# EAGLE library part TEMPLATE_ARGON/BORON/XENON (library voltera_community_lib)
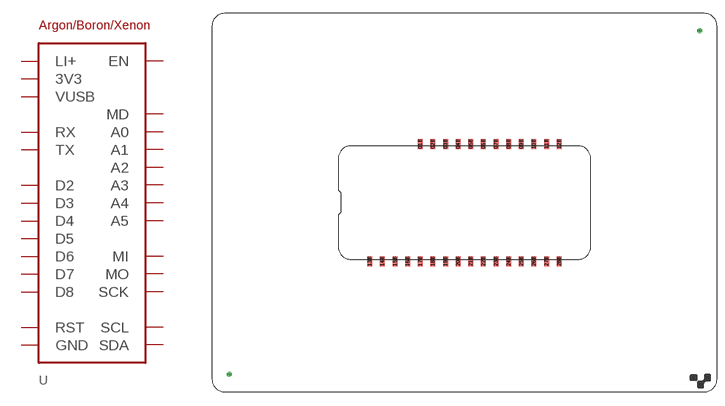
[diagram p7: symbol with the pads of FEATHER; footprint FEATHER]

Designator prefix -

## TEMPLATE_ARGON/BORON/XENON  [FEATHER]
01B  LI+
01T  LI+
02B  EN
02T  EN
03B  VUSB
03T  VUSB
04B  D8
04T  D8
05B  D7
05T  D7
06B  D6
06T  D6
07B  D5
07T  D5
08B  D4
08T  D4
09B  D3
09T  D3
10B  D2
10T  D2
11B  SCL
11T  SCL
12B  SDA
12T  SDA
13B  RST
13T  RST
14B  3V3
14T  3V3
15B  MD
15T  MD
16B  GND
16T  GND
17B  A0
17T  A0
18B  A1
18T  A1
19B  A2
19T  A2
20B  A3
20T  A3
21B  A4
21T  A4
22B  A5
22T  A5
23B  SCK
23T  SCK
24B  MO
24T  MO
25B  MI
25T  MI
26B  RX
26T  RX
27B  TX
27T  TX

## Footprint FEATHER (pad centres in mm)
smd 1.016 x 2.032 bottom: 01B 41.91,49.93; 02B 44.45,49.93; 03B 46.99,49.93; 04B 49.53,49.93; 05B 52.07,49.93; 06B 54.61,49.93; 07B 57.15,49.93; 08B 59.69,49.93; 09B 62.23,49.93; 10B 64.77,49.93; 11B 67.31,49.93; 12B 69.85,49.93; 13B 31.75,26.289; 14B 34.29,26.289; 15B 36.83,26.289; 16B 39.37,26.289; 17B 41.91,26.289; 18B 44.45,26.289; 19B 46.99,26.289; 20B 49.53,26.289; 21B 52.07,26.289; 22B 54.61,26.289; 23B 57.15,26.289; 24B 59.69,26.289; 25B 62.23,26.289; 26B 64.77,26.289; 27B 67.31,26.289; 28B 69.85,26.289
smd 1.016 x 2.032: 01T 41.91,49.93; 02T 44.45,49.93; 03T 46.99,49.93; 04T 49.53,49.93; 05T 52.07,49.93; 06T 54.61,49.93; 07T 57.15,49.93; 08T 59.69,49.93; 09T 62.23,49.93; 10T 64.77,49.93; 11T 67.31,49.93; 12T 69.85,49.93; 13T 31.75,26.289; 14T 34.29,26.289; 15T 36.83,26.289; 16T 39.37,26.289; 17T 41.91,26.289; 18T 44.45,26.289; 19T 46.99,26.289; 20T 49.53,26.289; 21T 52.07,26.289; 22T 54.61,26.289; 23T 57.15,26.289; 24T 59.69,26.289; 25T 62.23,26.289; 26T 64.77,26.289; 27T 67.31,26.289; 28T 69.85,26.289
drill 0.3 pad 1: P$1 3.5,3.5; P$2 98.1,72.7